# EAGLE library part FPS009-4200-0 (library con-yamaichi)
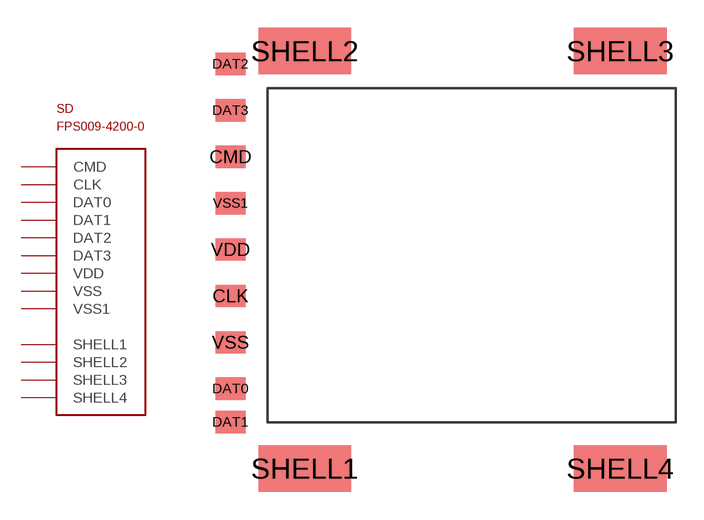
[diagram p35: symbol with the pads of FPS009-4200-0; footprint FPS009-4200-0]

Designator prefix SD

## FPS009-4200-0  [FPS009-4200-0]
CLK  CLK
CMD  CMD
DAT0  DAT0
DAT1  DAT1
DAT2  DAT2
DAT3  DAT3
SHELL1  SHELL1
SHELL2  SHELL2
SHELL3  SHELL3
SHELL4  SHELL4
VDD  VDD
VSS  VSS
VSS1  VSS1

## Footprint FPS009-4200-0 (pad centres in mm)
smd 1.6 x 1.2: CLK 0,6.8; CMD 0,14.3; DAT0 0,1.8; DAT1 0,0; DAT2 0,19.3; DAT3 0,16.8; VDD 0,9.3; VSS 0,4.3; VSS1 0,11.8
smd 5 x 2.5: SHELL1 4,-2.5; SHELL2 4,20; SHELL3 21,20; SHELL4 21,-2.5